# Altium footprint library HVPSlibrary.PcbLib: 149 footprints (part 7 of 11)
Each footprint in its own frame and in the unit in brackets; x right, y up, seen from the top. Pads: shape width x height; smd on the part's side, far side on the other; paste and mask are expansions set on the pad; w line width, h text height; cw(c..) or ccw(c..) is an arc to the next point about the centre after c.
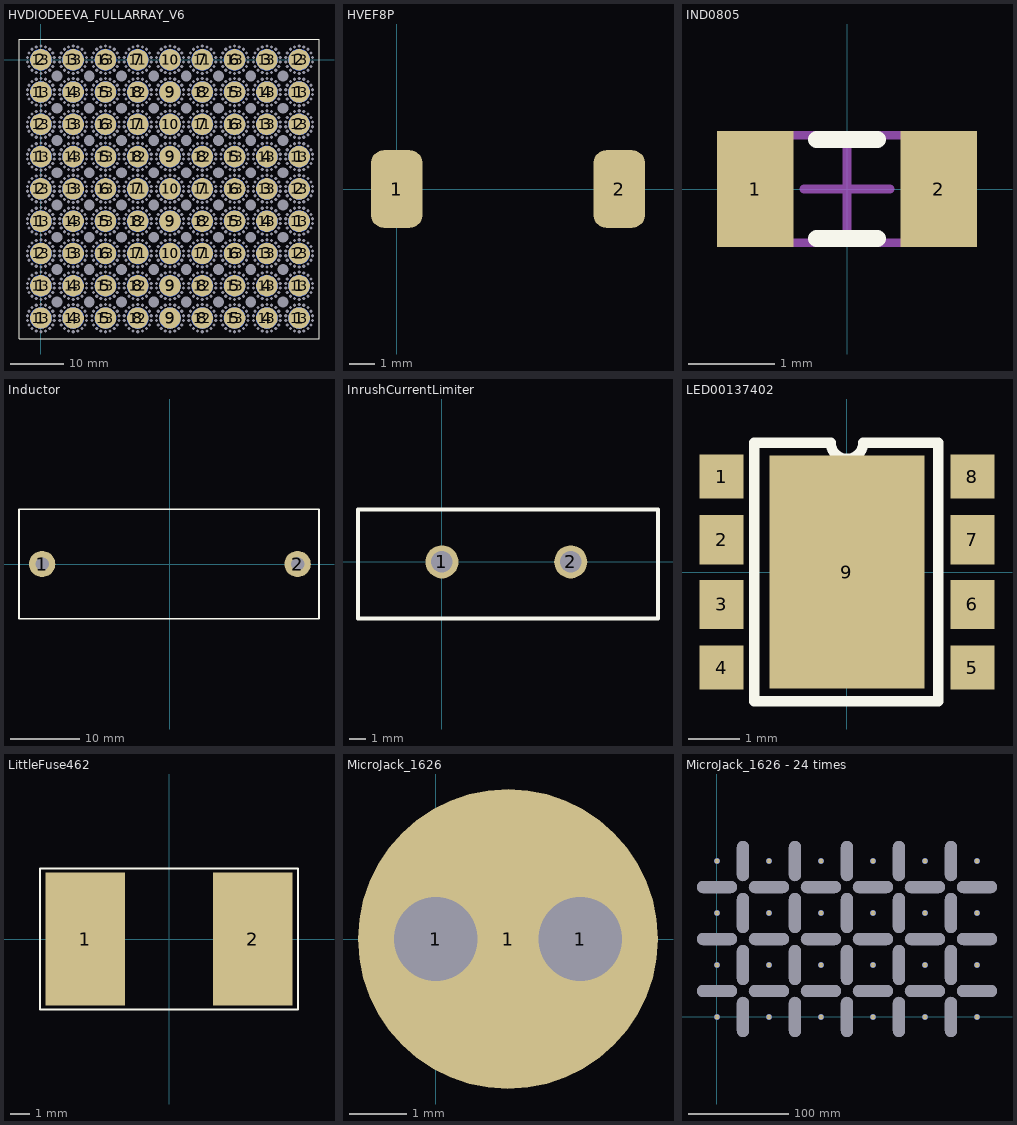
[diagram p6: the footprints below, top view; thin cyan lines are the x and y axes]

## HVDIODEEVA_FULLARRAY_V6 [mm]
pads (1684):
  round 0.3 hole 0.595 unplated: 1(-2.501,-48.441) 1(-2.501,-47.559) 1(-2.501,-42.441) 1(-2.501,-41.559) 1(-2.501,-36.441) 1(-2.501,-35.559) 1(-2.501,-30.441) 1(-2.501,-29.559) 1(-2.501,-24.441) 1(-2.501,-23.559) 1(-2.501,-18.441) 1(-2.501,-17.559) 1(-2.501,-12.441) 1(-2.501,-11.559) 1(-2.501,-6.441) 1(-2.501,-5.559) 1(-2.501,-0.441) 1(-2.501,0.441) 1(-2.2,-46.73) 1(-2.2,-40.73) 1(-2.2,-34.73) 1(-2.2,-28.73) 1(-2.2,-22.73) 1(-2.2,-16.73) 1(-2.2,-10.73) 1(-2.2,-4.73) 1(-2.2,1.27) 1(-2.2,-49.27) 1(-2.2,-43.27) 1(-2.2,-37.27) 1(-2.2,-31.27) 1(-2.2,-25.27) 1(-2.2,-19.27) 1(-2.2,-13.27) 1(-2.2,-7.27) 1(-2.2,-1.27) 1(-1.633,-46.054) 1(-1.633,-40.054) 1(-1.633,-34.054) 1(-1.633,-28.054) 1(-1.633,-22.054) 1(-1.633,-16.054) 1(-1.633,-10.054) 1(-1.633,-4.054) 1(-1.633,1.946) 1(-1.633,-49.946) 1(-1.633,-43.946) 1(-1.633,-37.946) 1(-1.633,-31.946) 1(-1.633,-25.946) 1(-1.633,-19.946) 1(-1.633,-13.946) 1(-1.633,-7.946) 1(-1.633,-1.946) 1(-0.869,-45.613) 1(-0.869,-39.613) 1(-0.869,-33.613) 1(-0.869,-27.613) 1(-0.869,-21.613) 1(-0.869,-15.613) 1(-0.869,-9.613) 1(-0.869,-3.613) 1(-0.869,2.387) 1(-0.869,-50.387) 1(-0.869,-44.387) 1(-0.869,-38.387) 1(-0.869,-32.387) 1(-0.869,-26.387) 1(-0.869,-20.387) 1(-0.869,-14.387) 1(-0.869,-8.387) 1(-0.869,-2.387) 1(0,-45.46) 1(0,-39.46) 1(0,-33.46) 1(0,-27.46) 1(0,-21.46) 1(0,-15.46) 1(0,-9.46) 1(0,-3.46) 1(0,2.54) 1(0,-50.54) 1(0,-44.54) 1(0,-38.54) 1(0,-32.54) 1(0,-26.54) 1(0,-20.54) 1(0,-14.54) 1(0,-8.54) 1(0,-2.54) 1(0.869,-45.613) 1(0.869,-39.613) 1(0.869,-33.613) 1(0.869,-27.613) 1(0.869,-21.613) 1(0.869,-15.613) 1(0.869,-9.613) 1(0.869,-3.613) 1(0.869,2.387) 1(0.869,-50.387) 1(0.869,-44.387) 1(0.869,-38.387) 1(0.869,-32.387) 1(0.869,-26.387) 1(0.869,-20.387) 1(0.869,-14.387) 1(0.869,-8.387) 1(0.869,-2.387) 1(1.633,-46.054) 1(1.633,-40.054) 1(1.633,-34.054) 1(1.633,-28.054) 1(1.633,-22.054) 1(1.633,-16.054) 1(1.633,-10.054) 1(1.633,-4.054) 1(1.633,1.946) 1(1.633,-49.946) 1(1.633,-43.946) 1(1.633,-37.946) 1(1.633,-31.946) 1(1.633,-25.946) 1(1.633,-19.946) 1(1.633,-13.946) 1(1.633,-7.946) 1(1.633,-1.946) 1(2.2,-46.73) 1(2.2,-40.73) 1(2.2,-34.73) 1(2.2,-28.73) 1(2.2,-22.73) 1(2.2,-16.73) 1(2.2,-10.73) 1(2.2,-4.73) 1(2.2,1.27) 1(2.2,-49.27) 1(2.2,-43.27) 1(2.2,-37.27) 1(2.2,-31.27) 1(2.2,-25.27) 1(2.2,-19.27) 1(2.2,-13.27) 1(2.2,-7.27) 1(2.2,-1.27) 1(2.501,-48.441) 1(2.501,-47.559) 1(2.501,-42.441) 1(2.501,-41.559) 1(2.501,-36.441) 1(2.501,-35.559) 1(2.501,-30.441) 1(2.501,-29.559) 1(2.501,-24.441) 1(2.501,-23.559) 1(2.501,-18.441) 1(2.501,-17.559) 1(2.501,-12.441) 1(2.501,-11.559) 1(2.501,-6.441) 1(2.501,-5.559) 1(2.501,-0.441) 1(2.501,0.441) 1(3.499,-48.441) 1(3.499,-47.559) 1(3.499,-42.441) 1(3.499,-41.559) 1(3.499,-36.441) 1(3.499,-35.559) 1(3.499,-30.441) 1(3.499,-29.559) 1(3.499,-24.441) 1(3.499,-23.559) 1(3.499,-18.441) 1(3.499,-17.559) 1(3.499,-12.441) 1(3.499,-11.559) 1(3.499,-6.441) 1(3.499,-5.559) 1(3.499,-0.441) 1(3.499,0.441) 1(3.8,-46.73) 1(3.8,-40.73) 1(3.8,-34.73) 1(3.8,-28.73) 1(3.8,-22.73) 1(3.8,-16.73) 1(3.8,-10.73) 1(3.8,-4.73) 1(3.8,1.27) 1(3.8,-49.27) 1(3.8,-43.27) 1(3.8,-37.27) 1(3.8,-31.27) 1(3.8,-25.27) 1(3.8,-19.27) 1(3.8,-13.27) 1(3.8,-7.27) 1(3.8,-1.27) 1(4.367,-46.054) 1(4.367,-40.054) 1(4.367,-34.054) 1(4.367,-28.054) 1(4.367,-22.054) 1(4.367,-16.054) 1(4.367,-10.054) 1(4.367,-4.054) 1(4.367,1.946) 1(4.367,-49.946) 1(4.367,-43.946) 1(4.367,-37.946) 1(4.367,-31.946) 1(4.367,-25.946) 1(4.367,-19.946) 1(4.367,-13.946) 1(4.367,-7.946) 1(4.367,-1.946) 1(5.131,-45.613) 1(5.131,-39.613) 1(5.131,-33.613) 1(5.131,-27.613) 1(5.131,-21.613) 1(5.131,-15.613) 1(5.131,-9.613) 1(5.131,-3.613) 1(5.131,2.387) 1(5.131,-50.387) 1(5.131,-44.387) 1(5.131,-38.387) 1(5.131,-32.387) 1(5.131,-26.387) 1(5.131,-20.387) 1(5.131,-14.387) 1(5.131,-8.387) 1(5.131,-2.387) 1(6,-45.46) 1(6,-39.46) 1(6,-33.46) 1(6,-27.46) 1(6,-21.46) 1(6,-15.46) 1(6,-9.46) 1(6,-3.46) 1(6,2.54) 1(6,-50.54) 1(6,-44.54) 1(6,-38.54) 1(6,-32.54) 1(6,-26.54) 1(6,-20.54) 1(6,-14.54) 1(6,-8.54) 1(6,-2.54) 1(6.869,-45.613) 1(6.869,-39.613) 1(6.869,-33.613) 1(6.869,-27.613) 1(6.869,-21.613) 1(6.869,-15.613) 1(6.869,-9.613) 1(6.869,-3.613) 1(6.869,2.387) 1(6.869,-50.387) 1(6.869,-44.387) 1(6.869,-38.387) 1(6.869,-32.387) 1(6.869,-26.387) 1(6.869,-20.387) 1(6.869,-14.387) 1(6.869,-8.387) 1(6.869,-2.387) 1(7.633,-46.054) 1(7.633,-40.054) 1(7.633,-34.054) 1(7.633,-28.054) 1(7.633,-22.054) 1(7.633,-16.054) 1(7.633,-10.054) 1(7.633,-4.054) 1(7.633,1.946) 1(7.633,-49.946) 1(7.633,-43.946) 1(7.633,-37.946) 1(7.633,-31.946) 1(7.633,-25.946) 1(7.633,-19.946) 1(7.633,-13.946) 1(7.633,-7.946) 1(7.633,-1.946) 1(8.2,-46.73) 1(8.2,-40.73) 1(8.2,-34.73) 1(8.2,-28.73) 1(8.2,-22.73) 1(8.2,-16.73) 1(8.2,-10.73) 1(8.2,-4.73) 1(8.2,1.27) 1(8.2,-49.27) 1(8.2,-43.27) 1(8.2,-37.27) 1(8.2,-31.27) 1(8.2,-25.27) 1(8.2,-19.27) 1(8.2,-13.27) 1(8.2,-7.27) 1(8.2,-1.27) 1(8.501,-48.441) 1(8.501,-47.559) 1(8.501,-42.441) 1(8.501,-41.559) 1(8.501,-36.441) 1(8.501,-35.559) 1(8.501,-30.441) 1(8.501,-29.559) 1(8.501,-24.441) 1(8.501,-23.559) 1(8.501,-18.441) 1(8.501,-17.559) 1(8.501,-12.441) 1(8.501,-11.559) 1(8.501,-6.441) 1(8.501,-5.559) 1(8.501,-0.441) 1(8.501,0.441) 1(9.499,-48.441) 1(9.499,-47.559) 1(9.499,-42.441) 1(9.499,-41.559) 1(9.499,-36.441) 1(9.499,-35.559) 1(9.499,-30.441) 1(9.499,-29.559) 1(9.499,-24.441) 1(9.499,-23.559) 1(9.499,-18.441) 1(9.499,-17.559) 1(9.499,-12.441) 1(9.499,-11.559) 1(9.499,-6.441) 1(9.499,-5.559) 1(9.499,-0.441) 1(9.499,0.441) 1(9.8,-46.73) 1(9.8,-40.73) 1(9.8,-34.73) 1(9.8,-28.73) 1(9.8,-22.73) 1(9.8,-16.73) 1(9.8,-10.73) 1(9.8,-4.73) 1(9.8,1.27) 1(9.8,-49.27) 1(9.8,-43.27) 1(9.8,-37.27) 1(9.8,-31.27) 1(9.8,-25.27) 1(9.8,-19.27) 1(9.8,-13.27) 1(9.8,-7.27) 1(9.8,-1.27) 1(10.367,-46.054) 1(10.367,-40.054) 1(10.367,-34.054) 1(10.367,-28.054) 1(10.367,-22.054) 1(10.367,-16.054) 1(10.367,-10.054) 1(10.367,-4.054) 1(10.367,1.946) 1(10.367,-49.946) 1(10.367,-43.946) 1(10.367,-37.946) 1(10.367,-31.946) 1(10.367,-25.946) 1(10.367,-19.946) 1(10.367,-13.946) 1(10.367,-7.946) 1(10.367,-1.946) 1(11.131,-45.613) 1(11.131,-39.613) 1(11.131,-33.613) 1(11.131,-27.613) 1(11.131,-21.613) 1(11.131,-15.613) 1(11.131,-9.613) 1(11.131,-3.613) 1(11.131,2.387) 1(11.131,-50.387) 1(11.131,-44.387) 1(11.131,-38.387) 1(11.131,-32.387) 1(11.131,-26.387) 1(11.131,-20.387) 1(11.131,-14.387) 1(11.131,-8.387) 1(11.131,-2.387) 1(12,-45.46) 1(12,-39.46) 1(12,-33.46) 1(12,-27.46) 1(12,-21.46) 1(12,-15.46) 1(12,-9.46) 1(12,-3.46) 1(12,2.54) 1(12,-50.54) 1(12,-44.54) 1(12,-38.54) 1(12,-32.54) 1(12,-26.54) 1(12,-20.54) 1(12,-14.54) 1(12,-8.54) 1(12,-2.54) 1(12.869,-45.613) 1(12.869,-39.613) 1(12.869,-33.613) 1(12.869,-27.613) 1(12.869,-21.613) 1(12.869,-15.613) 1(12.869,-9.613) 1(12.869,-3.613) 1(12.869,2.387) 1(12.869,-50.387) 1(12.869,-44.387) 1(12.869,-38.387) 1(12.869,-32.387) 1(12.869,-26.387) 1(12.869,-20.387) 1(12.869,-14.387) 1(12.869,-8.387) 1(12.869,-2.387) 1(13.633,-46.054) 1(13.633,-40.054) 1(13.633,-34.054) 1(13.633,-28.054) 1(13.633,-22.054) 1(13.633,-16.054) 1(13.633,-10.054) 1(13.633,-4.054) 1(13.633,1.946) 1(13.633,-49.946) 1(13.633,-43.946) 1(13.633,-37.946) 1(13.633,-31.946) 1(13.633,-25.946) 1(13.633,-19.946) 1(13.633,-13.946) 1(13.633,-7.946) 1(13.633,-1.946) 1(14.2,-46.73) 1(14.2,-40.73) 1(14.2,-34.73) 1(14.2,-28.73) 1(14.2,-22.73) 1(14.2,-16.73) 1(14.2,-10.73) 1(14.2,-4.73) 1(14.2,1.27) 1(14.2,-49.27) 1(14.2,-43.27) 1(14.2,-37.27) 1(14.2,-31.27) 1(14.2,-25.27) 1(14.2,-19.27) 1(14.2,-13.27) 1(14.2,-7.27) 1(14.2,-1.27) 1(14.501,-48.441) 1(14.501,-47.559) 1(14.501,-42.441) 1(14.501,-41.559) 1(14.501,-36.441) 1(14.501,-35.559) 1(14.501,-30.441) 1(14.501,-29.559) 1(14.501,-24.441) 1(14.501,-23.559) 1(14.501,-18.441) 1(14.501,-17.559) 1(14.501,-12.441) 1(14.501,-11.559) 1(14.501,-6.441) 1(14.501,-5.559) 1(14.501,-0.441) 1(14.501,0.441) 1(15.499,-48.441) 1(15.499,-47.559) 1(15.499,-42.441) 1(15.499,-41.559) 1(15.499,-36.441) 1(15.499,-35.559) 1(15.499,-30.441) 1(15.499,-29.559) 1(15.499,-24.441) 1(15.499,-23.559) 1(15.499,-18.441) 1(15.499,-17.559) 1(15.499,-12.441) 1(15.499,-11.559) 1(15.499,-6.441) 1(15.499,-5.559) 1(15.499,-0.441) 1(15.499,0.441) 1(15.8,-46.73) 1(15.8,-40.73) 1(15.8,-34.73) 1(15.8,-28.73) 1(15.8,-22.73) 1(15.8,-16.73) 1(15.8,-10.73) 1(15.8,-4.73) 1(15.8,1.27) 1(15.8,-49.27) 1(15.8,-43.27) 1(15.8,-37.27) 1(15.8,-31.27) 1(15.8,-25.27) 1(15.8,-19.27) 1(15.8,-13.27) 1(15.8,-7.27) 1(15.8,-1.27) 1(16.367,-46.054) 1(16.367,-40.054) 1(16.367,-34.054) 1(16.367,-28.054) 1(16.367,-22.054) 1(16.367,-16.054) 1(16.367,-10.054) 1(16.367,-4.054) 1(16.367,1.946) 1(16.367,-49.946) 1(16.367,-43.946) 1(16.367,-37.946) 1(16.367,-31.946) 1(16.367,-25.946) 1(16.367,-19.946) 1(16.367,-13.946) 1(16.367,-7.946) 1(16.367,-1.946) 1(17.131,-45.613) 1(17.131,-39.613) 1(17.131,-33.613) 1(17.131,-27.613) 1(17.131,-21.613) 1(17.131,-15.613) 1(17.131,-9.613) 1(17.131,-3.613) 1(17.131,2.387) 1(17.131,-50.387) 1(17.131,-44.387) 1(17.131,-38.387) 1(17.131,-32.387) 1(17.131,-26.387) 1(17.131,-20.387) 1(17.131,-14.387) 1(17.131,-8.387) 1(17.131,-2.387) 1(18,-45.46) 1(18,-39.46) 1(18,-33.46) 1(18,-27.46) 1(18,-21.46) 1(18,-15.46) 1(18,-9.46) 1(18,-3.46) 1(18,2.54) 1(18,-50.54) 1(18,-44.54) 1(18,-38.54) 1(18,-32.54) 1(18,-26.54) 1(18,-20.54) 1(18,-14.54) 1(18,-8.54) 1(18,-2.54) 1(18.869,-45.613) 1(18.869,-39.613) 1(18.869,-33.613) 1(18.869,-27.613) 1(18.869,-21.613) 1(18.869,-15.613) 1(18.869,-9.613) 1(18.869,-3.613) 1(18.869,2.387) 1(18.869,-50.387) 1(18.869,-44.387) 1(18.869,-38.387) 1(18.869,-32.387) 1(18.869,-26.387) 1(18.869,-20.387) 1(18.869,-14.387) 1(18.869,-8.387) 1(18.869,-2.387) 1(19.633,-46.054) 1(19.633,-40.054) 1(19.633,-34.054) 1(19.633,-28.054) 1(19.633,-22.054) 1(19.633,-16.054) 1(19.633,-10.054) 1(19.633,-4.054) 1(19.633,1.946) 1(19.633,-49.946) 1(19.633,-43.946) 1(19.633,-37.946) 1(19.633,-31.946) 1(19.633,-25.946) 1(19.633,-19.946) 1(19.633,-13.946) 1(19.633,-7.946) 1(19.633,-1.946) 1(20.2,-46.73) 1(20.2,-40.73) 1(20.2,-34.73) 1(20.2,-28.73) 1(20.2,-22.73) 1(20.2,-16.73) 1(20.2,-10.73) 1(20.2,-4.73) 1(20.2,1.27) 1(20.2,-49.27) 1(20.2,-43.27) 1(20.2,-37.27) 1(20.2,-31.27) 1(20.2,-25.27) 1(20.2,-19.27) 1(20.2,-13.27) 1(20.2,-7.27) 1(20.2,-1.27) 1(20.501,-48.441) 1(20.501,-47.559) 1(20.501,-42.441) 1(20.501,-41.559) 1(20.501,-36.441) 1(20.501,-35.559) 1(20.501,-30.441) 1(20.501,-29.559) 1(20.501,-24.441) 1(20.501,-23.559) 1(20.501,-18.441) 1(20.501,-17.559) 1(20.501,-12.441) 1(20.501,-11.559) 1(20.501,-6.441) 1(20.501,-5.559) 1(20.501,-0.441) 1(20.501,0.441) 1(21.499,-48.441) 1(21.499,-47.559) 1(21.499,-42.441) 1(21.499,-41.559) 1(21.499,-36.441) 1(21.499,-35.559) 1(21.499,-30.441) 1(21.499,-29.559) 1(21.499,-24.441) 1(21.499,-23.559) 1(21.499,-18.441) 1(21.499,-17.559) 1(21.499,-12.441) 1(21.499,-11.559) 1(21.499,-6.441) 1(21.499,-5.559) 1(21.499,-0.441) 1(21.499,0.441) 1(21.8,-46.73) 1(21.8,-40.73) 1(21.8,-34.73) 1(21.8,-28.73) 1(21.8,-22.73) 1(21.8,-16.73) 1(21.8,-10.73) 1(21.8,-4.73) 1(21.8,1.27) 1(21.8,-49.27) 1(21.8,-43.27) 1(21.8,-37.27) 1(21.8,-31.27) 1(21.8,-25.27) 1(21.8,-19.27) 1(21.8,-13.27) 1(21.8,-7.27) 1(21.8,-1.27) 1(22.367,-46.054) 1(22.367,-40.054) 1(22.367,-34.054) 1(22.367,-28.054) 1(22.367,-22.054) 1(22.367,-16.054) 1(22.367,-10.054) 1(22.367,-4.054) 1(22.367,1.946) 1(22.367,-49.946) 1(22.367,-43.946) 1(22.367,-37.946) 1(22.367,-31.946) 1(22.367,-25.946) 1(22.367,-19.946) 1(22.367,-13.946) 1(22.367,-7.946) 1(22.367,-1.946) 1(23.131,-45.613) 1(23.131,-39.613) 1(23.131,-33.613) 1(23.131,-27.613) 1(23.131,-21.613) 1(23.131,-15.613) 1(23.131,-9.613) 1(23.131,-3.613) 1(23.131,2.387) 1(23.131,-50.387) 1(23.131,-44.387) 1(23.131,-38.387) 1(23.131,-32.387) 1(23.131,-26.387) 1(23.131,-20.387) 1(23.131,-14.387) 1(23.131,-8.387) 1(23.131,-2.387) 1(24,-45.46) 1(24,-39.46) 1(24,-33.46) 1(24,-27.46) 1(24,-21.46) 1(24,-15.46) 1(24,-9.46) 1(24,-3.46) 1(24,2.54) 1(24,-50.54) 1(24,-44.54) 1(24,-38.54) 1(24,-32.54) 1(24,-26.54) 1(24,-20.54) 1(24,-14.54) 1(24,-8.54) 1(24,-2.54) 1(24.869,-45.613) 1(24.869,-39.613) 1(24.869,-33.613) 1(24.869,-27.613) 1(24.869,-21.613) 1(24.869,-15.613) 1(24.869,-9.613) 1(24.869,-3.613) 1(24.869,2.387) 1(24.869,-50.387) 1(24.869,-44.387) 1(24.869,-38.387) 1(24.869,-32.387) 1(24.869,-26.387) 1(24.869,-20.387) 1(24.869,-14.387) 1(24.869,-8.387) 1(24.869,-2.387) 1(25.633,-46.054) 1(25.633,-40.054) 1(25.633,-34.054) 1(25.633,-28.054) 1(25.633,-22.054) 1(25.633,-16.054) 1(25.633,-10.054) 1(25.633,-4.054) 1(25.633,1.946) 1(25.633,-49.946) 1(25.633,-43.946) 1(25.633,-37.946) 1(25.633,-31.946) 1(25.633,-25.946) 1(25.633,-19.946) 1(25.633,-13.946) 1(25.633,-7.946) 1(25.633,-1.946) 1(26.2,-46.73) 1(26.2,-40.73) 1(26.2,-34.73) 1(26.2,-28.73) 1(26.2,-22.73) 1(26.2,-16.73) 1(26.2,-10.73) 1(26.2,-4.73) 1(26.2,1.27) 1(26.2,-49.27) 1(26.2,-43.27) 1(26.2,-37.27) 1(26.2,-31.27) 1(26.2,-25.27) 1(26.2,-19.27) 1(26.2,-13.27) 1(26.2,-7.27) 1(26.2,-1.27) 1(26.501,-48.441) 1(26.501,-47.559) 1(26.501,-42.441) 1(26.501,-41.559) 1(26.501,-36.441) 1(26.501,-35.559) 1(26.501,-30.441) 1(26.501,-29.559) 1(26.501,-24.441) 1(26.501,-23.559) 1(26.501,-18.441) 1(26.501,-17.559) 1(26.501,-12.441) 1(26.501,-11.559) 1(26.501,-6.441) 1(26.501,-5.559) 1(26.501,-0.441) 1(26.501,0.441) 1(27.499,-48.441) 1(27.499,-47.559) 1(27.499,-42.441) 1(27.499,-41.559) 1(27.499,-36.441) 1(27.499,-35.559) 1(27.499,-30.441) 1(27.499,-29.559) 1(27.499,-24.441) 1(27.499,-23.559) 1(27.499,-18.441) 1(27.499,-17.559) 1(27.499,-12.441) 1(27.499,-11.559) 1(27.499,-6.441) 1(27.499,-5.559) 1(27.499,-0.441) 1(27.499,0.441) 1(27.8,-46.73) 1(27.8,-40.73) 1(27.8,-34.73) 1(27.8,-28.73) 1(27.8,-22.73) 1(27.8,-16.73) 1(27.8,-10.73) 1(27.8,-4.73) 1(27.8,1.27) 1(27.8,-49.27) 1(27.8,-43.27) 1(27.8,-37.27) 1(27.8,-31.27) 1(27.8,-25.27) 1(27.8,-19.27) 1(27.8,-13.27) 1(27.8,-7.27) 1(27.8,-1.27) 1(28.367,-46.054) 1(28.367,-40.054) 1(28.367,-34.054) 1(28.367,-28.054) 1(28.367,-22.054) 1(28.367,-16.054) 1(28.367,-10.054) 1(28.367,-4.054) 1(28.367,1.946) 1(28.367,-49.946) 1(28.367,-43.946) 1(28.367,-37.946) 1(28.367,-31.946) 1(28.367,-25.946) 1(28.367,-19.946) 1(28.367,-13.946) 1(28.367,-7.946) 1(28.367,-1.946) 1(29.131,-45.613) 1(29.131,-39.613) 1(29.131,-33.613) 1(29.131,-27.613) 1(29.131,-21.613) 1(29.131,-15.613) 1(29.131,-9.613) 1(29.131,-3.613) 1(29.131,2.387) 1(29.131,-50.387) 1(29.131,-44.387) 1(29.131,-38.387) 1(29.131,-32.387) 1(29.131,-26.387) 1(29.131,-20.387) 1(29.131,-14.387) 1(29.131,-8.387) 1(29.131,-2.387) 1(30,-45.46) 1(30,-39.46) 1(30,-33.46) 1(30,-27.46) 1(30,-21.46) 1(30,-15.46) 1(30,-9.46) 1(30,-3.46) 1(30,2.54) 1(30,-50.54) 1(30,-44.54) 1(30,-38.54) 1(30,-32.54) 1(30,-26.54) 1(30,-20.54) 1(30,-14.54) 1(30,-8.54) 1(30,-2.54) 1(30.869,-45.613) 1(30.869,-39.613) 1(30.869,-33.613) 1(30.869,-27.613) 1(30.869,-21.613) 1(30.869,-15.613) 1(30.869,-9.613) 1(30.869,-3.613) 1(30.869,2.387) 1(30.869,-50.387) 1(30.869,-44.387) 1(30.869,-38.387) 1(30.869,-32.387) 1(30.869,-26.387) 1(30.869,-20.387) 1(30.869,-14.387) 1(30.869,-8.387) 1(30.869,-2.387) 1(31.633,-46.054) 1(31.633,-40.054) 1(31.633,-34.054) 1(31.633,-28.054) 1(31.633,-22.054) 1(31.633,-16.054) 1(31.633,-10.054) 1(31.633,-4.054) 1(31.633,1.946) 1(31.633,-49.946) 1(31.633,-43.946) 1(31.633,-37.946) 1(31.633,-31.946) 1(31.633,-25.946) 1(31.633,-19.946) 1(31.633,-13.946) 1(31.633,-7.946) 1(31.633,-1.946) 1(32.2,-46.73) 1(32.2,-40.73) 1(32.2,-34.73) 1(32.2,-28.73) 1(32.2,-22.73) 1(32.2,-16.73) 1(32.2,-10.73) 1(32.2,-4.73) 1(32.2,1.27) 1(32.2,-49.27) 1(32.2,-43.27) 1(32.2,-37.27) 1(32.2,-31.27) 1(32.2,-25.27) 1(32.2,-19.27) 1(32.2,-13.27) 1(32.2,-7.27) 1(32.2,-1.27) 1(32.501,-48.441) 1(32.501,-47.559) 1(32.501,-42.441) 1(32.501,-41.559) 1(32.501,-36.441) 1(32.501,-35.559) 1(32.501,-30.441) 1(32.501,-29.559) 1(32.501,-24.441) 1(32.501,-23.559) 1(32.501,-18.441) 1(32.501,-17.559) 1(32.501,-12.441) 1(32.501,-11.559) 1(32.501,-6.441) 1(32.501,-5.559) 1(32.501,-0.441) 1(32.501,0.441) 1(33.499,-48.441) 1(33.499,-47.559) 1(33.499,-42.441) 1(33.499,-41.559) 1(33.499,-36.441) 1(33.499,-35.559) 1(33.499,-30.441) 1(33.499,-29.559) 1(33.499,-24.441) 1(33.499,-23.559) 1(33.499,-18.441) 1(33.499,-17.559) 1(33.499,-12.441) 1(33.499,-11.559) 1(33.499,-6.441) 1(33.499,-5.559) 1(33.499,-0.441) 1(33.499,0.441) 1(33.8,-46.73) 1(33.8,-40.73) 1(33.8,-34.73) 1(33.8,-28.73) 1(33.8,-22.73) 1(33.8,-16.73) 1(33.8,-10.73) 1(33.8,-4.73) 1(33.8,1.27) 1(33.8,-49.27) 1(33.8,-43.27) 1(33.8,-37.27) 1(33.8,-31.27) 1(33.8,-25.27) 1(33.8,-19.27) 1(33.8,-13.27) 1(33.8,-7.27) 1(33.8,-1.27) 1(34.367,-46.054) 1(34.367,-40.054) 1(34.367,-34.054) 1(34.367,-28.054) 1(34.367,-22.054) 1(34.367,-16.054) 1(34.367,-10.054) 1(34.367,-4.054) 1(34.367,1.946) 1(34.367,-49.946) 1(34.367,-43.946) 1(34.367,-37.946) 1(34.367,-31.946) 1(34.367,-25.946) 1(34.367,-19.946) 1(34.367,-13.946) 1(34.367,-7.946) 1(34.367,-1.946) 1(35.131,-45.613) 1(35.131,-39.613) 1(35.131,-33.613) 1(35.131,-27.613) 1(35.131,-21.613) 1(35.131,-15.613) 1(35.131,-9.613) 1(35.131,-3.613) 1(35.131,2.387) 1(35.131,-50.387) 1(35.131,-44.387) 1(35.131,-38.387) 1(35.131,-32.387) 1(35.131,-26.387) 1(35.131,-20.387) 1(35.131,-14.387) 1(35.131,-8.387) 1(35.131,-2.387) 1(36,-45.46) 1(36,-39.46) 1(36,-33.46) 1(36,-27.46) 1(36,-21.46) 1(36,-15.46) 1(36,-9.46) 1(36,-3.46) 1(36,2.54) 1(36,-50.54) 1(36,-44.54) 1(36,-38.54) 1(36,-32.54) 1(36,-26.54) 1(36,-20.54) 1(36,-14.54) 1(36,-8.54) 1(36,-2.54) 1(36.869,-45.613) 1(36.869,-39.613) 1(36.869,-33.613) 1(36.869,-27.613) 1(36.869,-21.613) 1(36.869,-15.613) 1(36.869,-9.613) 1(36.869,-3.613) 1(36.869,2.387) 1(36.869,-50.387) 1(36.869,-44.387) 1(36.869,-38.387) 1(36.869,-32.387) 1(36.869,-26.387) 1(36.869,-20.387) 1(36.869,-14.387) 1(36.869,-8.387) 1(36.869,-2.387) 1(37.633,-46.054) 1(37.633,-40.054) 1(37.633,-34.054) 1(37.633,-28.054) 1(37.633,-22.054) 1(37.633,-16.054) 1(37.633,-10.054) 1(37.633,-4.054) 1(37.633,1.946) 1(37.633,-49.946) 1(37.633,-43.946) 1(37.633,-37.946) 1(37.633,-31.946) 1(37.633,-25.946) 1(37.633,-19.946) 1(37.633,-13.946) 1(37.633,-7.946) 1(37.633,-1.946) 1(38.2,-46.73) 1(38.2,-40.73) 1(38.2,-34.73) 1(38.2,-28.73) 1(38.2,-22.73) 1(38.2,-16.73) 1(38.2,-10.73) 1(38.2,-4.73) 1(38.2,1.27) 1(38.2,-49.27) 1(38.2,-43.27) 1(38.2,-37.27) 1(38.2,-31.27) 1(38.2,-25.27) 1(38.2,-19.27) 1(38.2,-13.27) 1(38.2,-7.27) 1(38.2,-1.27) 1(38.501,-48.441) 1(38.501,-47.559) 1(38.501,-42.441) 1(38.501,-41.559) 1(38.501,-36.441) 1(38.501,-35.559) 1(38.501,-30.441) 1(38.501,-29.559) 1(38.501,-24.441) 1(38.501,-23.559) 1(38.501,-18.441) 1(38.501,-17.559) 1(38.501,-12.441) 1(38.501,-11.559) 1(38.501,-6.441) 1(38.501,-5.559) 1(38.501,-0.441) 1(38.501,0.441) 1(39.499,-48.441) 1(39.499,-47.559) 1(39.499,-42.441) 1(39.499,-41.559) 1(39.499,-36.441) 1(39.499,-35.559) 1(39.499,-30.441) 1(39.499,-29.559) 1(39.499,-24.441) 1(39.499,-23.559) 1(39.499,-18.441) 1(39.499,-17.559) 1(39.499,-12.441) 1(39.499,-11.559) 1(39.499,-6.441) 1(39.499,-5.559) 1(39.499,-0.441) 1(39.499,0.441) 1(39.8,-46.73) 1(39.8,-40.73) 1(39.8,-34.73) 1(39.8,-28.73) 1(39.8,-22.73) 1(39.8,-16.73) 1(39.8,-10.73) 1(39.8,-4.73) 1(39.8,1.27) 1(39.8,-49.27) 1(39.8,-43.27) 1(39.8,-37.27) 1(39.8,-31.27) 1(39.8,-25.27) 1(39.8,-19.27) 1(39.8,-13.27) 1(39.8,-7.27) 1(39.8,-1.27) 1(40.367,-46.054) 1(40.367,-40.054) 1(40.367,-34.054) 1(40.367,-28.054) 1(40.367,-22.054) 1(40.367,-16.054) 1(40.367,-10.054) 1(40.367,-4.054) 1(40.367,1.946) 1(40.367,-49.946) 1(40.367,-43.946) 1(40.367,-37.946) 1(40.367,-31.946) 1(40.367,-25.946) 1(40.367,-19.946) 1(40.367,-13.946) 1(40.367,-7.946) 1(40.367,-1.946) 1(41.131,-45.613) 1(41.131,-39.613) 1(41.131,-33.613) 1(41.131,-27.613) 1(41.131,-21.613) 1(41.131,-15.613) 1(41.131,-9.613) 1(41.131,-3.613) 1(41.131,2.387) 1(41.131,-50.387) 1(41.131,-44.387) 1(41.131,-38.387) 1(41.131,-32.387) 1(41.131,-26.387) 1(41.131,-20.387) 1(41.131,-14.387) 1(41.131,-8.387) 1(41.131,-2.387) 1(42,-45.46) 1(42,-39.46) 1(42,-33.46) 1(42,-27.46) 1(42,-21.46) 1(42,-15.46) 1(42,-9.46) 1(42,-3.46) 1(42,2.54) 1(42,-50.54) 1(42,-44.54) 1(42,-38.54) 1(42,-32.54) 1(42,-26.54) 1(42,-20.54) 1(42,-14.54) 1(42,-8.54) 1(42,-2.54) 1(42.869,-45.613) 1(42.869,-39.613) 1(42.869,-33.613) 1(42.869,-27.613) 1(42.869,-21.613) 1(42.869,-15.613) 1(42.869,-9.613) 1(42.869,-3.613) 1(42.869,2.387) 1(42.869,-50.387) 1(42.869,-44.387) 1(42.869,-38.387) 1(42.869,-32.387) 1(42.869,-26.387) 1(42.869,-20.387) 1(42.869,-14.387) 1(42.869,-8.387) 1(42.869,-2.387) 1(43.633,-46.054) 1(43.633,-40.054) 1(43.633,-34.054) 1(43.633,-28.054) 1(43.633,-22.054) 1(43.633,-16.054) 1(43.633,-10.054) 1(43.633,-4.054) 1(43.633,1.946) 1(43.633,-49.946) 1(43.633,-43.946) 1(43.633,-37.946) 1(43.633,-31.946) 1(43.633,-25.946) 1(43.633,-19.946) 1(43.633,-13.946) 1(43.633,-7.946) 1(43.633,-1.946) 1(44.2,-46.73) 1(44.2,-40.73) 1(44.2,-34.73) 1(44.2,-28.73) 1(44.2,-22.73) 1(44.2,-16.73) 1(44.2,-10.73) 1(44.2,-4.73) 1(44.2,1.27) 1(44.2,-49.27) 1(44.2,-43.27) 1(44.2,-37.27) 1(44.2,-31.27) 1(44.2,-25.27) 1(44.2,-19.27) 1(44.2,-13.27) 1(44.2,-7.27) 1(44.2,-1.27) 1(44.501,-48.441) 1(44.501,-47.559) 1(44.501,-42.441) 1(44.501,-41.559) 1(44.501,-36.441) 1(44.501,-35.559) 1(44.501,-30.441) 1(44.501,-29.559) 1(44.501,-24.441) 1(44.501,-23.559) 1(44.501,-18.441) 1(44.501,-17.559) 1(44.501,-12.441) 1(44.501,-11.559) 1(44.501,-6.441) 1(44.501,-5.559) 1(44.501,-0.441) 1(44.501,0.441) 1(45.499,-48.441) 1(45.499,-47.559) 1(45.499,-42.441) 1(45.499,-41.559) 1(45.499,-36.441) 1(45.499,-35.559) 1(45.499,-30.441) 1(45.499,-29.559) 1(45.499,-24.441) 1(45.499,-23.559) 1(45.499,-18.441) 1(45.499,-17.559) 1(45.499,-12.441) 1(45.499,-11.559) 1(45.499,-6.441) 1(45.499,-5.559) 1(45.499,-0.441) 1(45.499,0.441) 1(45.8,-46.73) 1(45.8,-40.73) 1(45.8,-34.73) 1(45.8,-28.73) 1(45.8,-22.73) 1(45.8,-16.73) 1(45.8,-10.73) 1(45.8,-4.73) 1(45.8,1.27) 1(45.8,-49.27) 1(45.8,-43.27) 1(45.8,-37.27) 1(45.8,-31.27) 1(45.8,-25.27) 1(45.8,-19.27) 1(45.8,-13.27) 1(45.8,-7.27) 1(45.8,-1.27) 1(46.367,-46.054) 1(46.367,-40.054) 1(46.367,-34.054) 1(46.367,-28.054) 1(46.367,-22.054) 1(46.367,-16.054) 1(46.367,-10.054) 1(46.367,-4.054) 1(46.367,1.946) 1(46.367,-49.946) 1(46.367,-43.946) 1(46.367,-37.946) 1(46.367,-31.946) 1(46.367,-25.946) 1(46.367,-19.946) 1(46.367,-13.946) 1(46.367,-7.946) 1(46.367,-1.946) 1(47.131,-45.613) 1(47.131,-39.613) 1(47.131,-33.613) 1(47.131,-27.613) 1(47.131,-21.613) 1(47.131,-15.613) 1(47.131,-9.613) 1(47.131,-3.613) 1(47.131,2.387) 1(47.131,-50.387) 1(47.131,-44.387) 1(47.131,-38.387) 1(47.131,-32.387) 1(47.131,-26.387) 1(47.131,-20.387) 1(47.131,-14.387) 1(47.131,-8.387) 1(47.131,-2.387) 1(48,-45.46) 1(48,-39.46) 1(48,-33.46) 1(48,-27.46) 1(48,-21.46) 1(48,-15.46) 1(48,-9.46) 1(48,-3.46) 1(48,2.54) 1(48,-50.54) 1(48,-44.54) 1(48,-38.54) 1(48,-32.54) 1(48,-26.54) 1(48,-20.54) 1(48,-14.54) 1(48,-8.54) 1(48,-2.54) 1(48.869,-45.613) 1(48.869,-39.613) 1(48.869,-33.613) 1(48.869,-27.613) 1(48.869,-21.613) 1(48.869,-15.613) 1(48.869,-9.613) 1(48.869,-3.613) 1(48.869,2.387) 1(48.869,-50.387) 1(48.869,-44.387) 1(48.869,-38.387) 1(48.869,-32.387) 1(48.869,-26.387) 1(48.869,-20.387) 1(48.869,-14.387) 1(48.869,-8.387) 1(48.869,-2.387) 1(49.633,-46.054) 1(49.633,-40.054) 1(49.633,-34.054) 1(49.633,-28.054) 1(49.633,-22.054) 1(49.633,-16.054) 1(49.633,-10.054) 1(49.633,-4.054) 1(49.633,1.946) 1(49.633,-49.946) 1(49.633,-43.946) 1(49.633,-37.946) 1(49.633,-31.946) 1(49.633,-25.946) 1(49.633,-19.946) 1(49.633,-13.946) 1(49.633,-7.946) 1(49.633,-1.946) 1(50.2,-46.73) 1(50.2,-40.73) 1(50.2,-34.73) 1(50.2,-28.73) 1(50.2,-22.73) 1(50.2,-16.73) 1(50.2,-10.73) 1(50.2,-4.73) 1(50.2,1.27) 1(50.2,-49.27) 1(50.2,-43.27) 1(50.2,-37.27) 1(50.2,-31.27) 1(50.2,-25.27) 1(50.2,-19.27) 1(50.2,-13.27) 1(50.2,-7.27) 1(50.2,-1.27) 1(50.501,-48.441) 1(50.501,-47.559) 1(50.501,-42.441) 1(50.501,-41.559) 1(50.501,-36.441) 1(50.501,-35.559) 1(50.501,-30.441) 1(50.501,-29.559) 1(50.501,-24.441) 1(50.501,-23.559) 1(50.501,-18.441) 1(50.501,-17.559) 1(50.501,-12.441) 1(50.501,-11.559) 1(50.501,-6.441) 1(50.501,-5.559) 1(50.501,-0.441) 1(50.501,0.441)
  round 4 smd: 1(0,-48) 1(0,-42) 1(0,-30) 1(0,-18) 1(0,-6) 2(0,-36) 2(0,-24) 2(0,-12) 2(0,0) 3(6,-36) 3(6,-24) 3(6,-12) 3(6,0) 4(6,-48) 4(6,-42) 4(6,-30) 4(6,-18) 4(6,-6) 5(12,-48) 5(12,-42) 5(12,-30) 5(12,-18) 5(12,-6) 6(12,-36) 6(12,-24) 6(12,-12) 6(12,0) 7(18,-36) 7(18,-24) 7(18,-12) 7(18,0) 8(18,-48) 8(18,-42) 8(18,-30) 8(18,-18) 8(18,-6) 9(24,-48) 9(24,-42) 9(24,-30) 9(24,-18) 9(24,-6) 10(24,-36) 10(24,-24) 10(24,-12) 10(24,0) 11(30,-36) 11(30,-24) 11(30,-12) 11(30,0) 12(30,-48) 12(30,-42) 12(30,-30) 12(30,-18) 12(30,-6) 13(36,-48) 13(36,-42) 13(36,-30) 13(36,-36) 13(36,-24) 13(36,-18) 13(36,-12) 13(36,-6) 13(36,0) 13(42,-48) 13(42,-42) 13(42,-36) 13(42,-30) 13(42,-24) 13(42,-18) 13(42,-12) 13(42,-6) 13(42,0) 13(48,-48) 13(48,-42) 13(48,-36) 13(48,-30) 13(48,-24) 13(48,-18) 13(48,-12) 13(48,-6) 13(48,0)
  round 0.4 hole 2 unplated: 1(3,-45) 1(3,-39) 1(3,-33) 1(3,-27) 1(3,-21) 1(3,-15) 1(3,-9) 1(3,-3) 1(9,-45) 1(9,-39) 1(9,-33) 1(9,-27) 1(9,-21) 1(9,-15) 1(9,-9) 1(9,-3) 1(15,-45) 1(15,-39) 1(15,-33) 1(15,-27) 1(15,-21) 1(15,-15) 1(15,-9) 1(15,-3) 1(21,-45) 1(21,-39) 1(21,-33) 1(21,-27) 1(21,-21) 1(21,-15) 1(21,-9) 1(21,-3) 1(27,-45) 1(27,-39) 1(27,-33) 1(27,-27) 1(27,-21) 1(27,-15) 1(27,-9) 1(27,-3) 1(33,-45) 1(33,-39) 1(33,-33) 1(33,-27) 1(33,-21) 1(33,-15) 1(33,-9) 1(33,-3) 1(39,-45) 1(39,-39) 1(39,-33) 1(39,-27) 1(39,-21) 1(39,-15) 1(39,-9) 1(39,-3) 1(45,-45) 1(45,-39) 1(45,-33) 1(45,-27) 1(45,-21) 1(45,-15) 1(45,-9) 1(45,-3)
  round 4 smd far side: 1(48,-48) 1(48,-42) 1(48,-30) 1(48,-18) 1(48,-6) 2(48,-36) 2(48,-24) 2(48,-12) 2(48,0) 3(42,-36) 3(42,-24) 3(42,-12) 3(42,0) 4(42,-48) 4(42,-42) 4(42,-30) 4(42,-18) 4(42,-6) 5(36,-48) 5(36,-42) 5(36,-30) 5(36,-18) 5(36,-6) 6(36,-36) 6(36,-24) 6(36,-12) 6(36,0) 7(30,0) 7(30,-12) 7(30,-36) 7(30,-24) 8(30,-18) 8(30,-6) 8(30,-48) 8(30,-42) 8(30,-30) 9(24,-18) 9(24,-6) 9(24,-48) 9(24,-42) 9(24,-30) 10(24,0) 10(24,-12) 10(24,-36) 10(24,-24) 11(18,0) 11(18,-12) 11(18,-36) 11(18,-24) 12(18,-18) 12(18,-6) 12(18,-48) 12(18,-42) 12(18,-30) 13(0,0) 13(0,-48) 13(0,-42) 13(0,-36) 13(0,-30) 13(0,-24) 13(0,-18) 13(0,-12) 13(0,-6) 13(6,0) 13(6,-48) 13(6,-42) 13(6,-36) 13(6,-30) 13(6,-24) 13(6,-18) 13(6,-12) 13(6,-6) 13(12,0) 13(12,-36) 13(12,-24) 13(12,-18) 13(12,-12) 13(12,-6) 13(12,-48) 13(12,-42) 13(12,-30)
Top Overlay:
  lines w0.2: -4.064,-51.816 51.689,-51.816 51.689,3.779 -4.064,3.779 -4.064,-51.816
Bottom Overlay:
  lines w0.2: -4.064,-51.816 51.689,-51.816 51.689,3.779 -4.064,3.779 -4.064,-51.816
3D body "Diode SMA.stp": height 2.41, standoff 0, extent 18.272,-5.889 24.07,-0.091
3D body "DO-215AD.stp": height 1.35, standoff 0, extent 11.215,-16.942 12.915,-13.092
3D body "DO-215AD.stp": height 1.35, standoff 0, extent 5.119,-16.942 6.819,-13.092
3D body "DO-215AD.stp": height 1.35, standoff 0, extent -0.85,-17.069 0.85,-13.219
3D body "DO-215AD.stp": height 1.35, standoff 0, extent 6.965,-18.788 10.815,-17.088
3D body "ROHM_TUMD2SM.STEP": height 0.8, standoff 0, extent 11.315,-4.379 12.815,-1.779
3D body "ROHM_TUMD2SM.STEP": height 0.8, standoff 0, extent 7.717,-6.75 10.317,-5.25
3D body "ROHM_TUMD2SM.STEP": height 0.8, standoff 0, extent 5.346,-4.379 6.846,-1.779
3D body "ROHM_TUMD2SM.STEP": height 0.8, standoff 0, extent -0.75,-4.252 0.75,-1.652
3D body "X150FF3_Diode.STEP": height 2.16, standoff -2.16, extent 0.008,-31.394 12.021,-22.728
3D body "X150FF3_Diode.STEP": height 2.16, standoff -2.16, extent 11.975,-31.905 23.927,-22.814
3D body "DeanTech_UX_F2CL15.STEP": height 2.15, standoff -2.15, extent -0.128,-43.738 17.654,-34.302
3D body "ROHM_TUMD2SM.STEP": height 0.8, standoff 0, extent 1.748,-0.781 4.348,0.719
3D body "DO-215AD.stp": height 1.35, standoff 0, extent 1.123,-12.692 4.973,-10.992

## HVEF8P [mm]
pads (2):
  rrect50% 2x3 all layers, no hole: 1(0,0) 2(8.6,0)

## IND0805 [mil] "Chip Inductor 2-Leads, Body 2.0x1.2mm, IPC Medium Density"
height 49.21
pads (2):
  rect 35x53.15 smd: 1(-42,0) 2(42,0)
Top Overlay:
  lines w7.87: -13.78,-22.64 13.78,-22.64 ; -13.78,22.64 13.78,22.64
Mechanical 13:
  lines w3.94: -40.35,-24.61 40.35,-24.61 40.35,24.61 -40.35,24.61 -40.35,-24.61
Mechanical 15:
  lines w3.94: -19.68,0 19.69,0 ; 0,-19.68 0,19.68
3D body: height 49.21, standoff 0, extent -40.35,-24.61 40.35,24.61

## Inductor [mil]
height 650
pads (2):
  round 150 hole 76: 1(-728,0) 2(728,0)
Top Overlay:
  lines w10: -860,-312.5 850,-312.5 850,312.5 -860,312.5 -860,-312.5

## InrushCurrentLimiter [mm]
pads (2):
  round 2 hole 1.3: 1(0,0) 2(7.8,0)
Top Overlay:
  lines w0.254: -5.08,-3.429 13.081,-3.429 13.081,3.175 -5.08,3.175 -5.08,-3.429
3D body: height 18, standoff 0, extent -4.953,-3.302 13.081,3.048

## LED00137402 [mm]
pads (9):
  rect 0.85x0.85 smd: 1(-2.425,1.845) 4(-2.425,-1.845) 5(2.425,-1.845) 8(2.425,1.845)
  rect 0.85x0.95 smd: 2(-2.425,0.625) 3(-2.425,-0.625) 6(2.425,-0.625) 7(2.425,0.625)
  rect 3x4.5 smd: 9(0,0)
Top Overlay:
  lines w0.2: -1.79,-2.5 1.766,-2.5 1.766,2.5 0.312,2.5 cw(c0,2.5) -0.312,2.5 -1.79,2.5 -1.79,-2.5

## LittleFuse462 [mm]
pads (2):
  rect 4x6.68 smd: 1(-4.2,0) 2(4.2,0)
Top Overlay:
  lines w0.1: -6.477,-3.556 -6.477,-0.867 -6.477,3.556 6.477,3.556 6.477,-3.556 -6.477,-3.556
3D body: height 4.5, standoff 0, extent -6.35,-3.556 6.477,3.556

## MicroJack_1626 [mm]
pads (3):
  round 2.5 hole 1.45 paste+0 mask+0: 1(0,0) 1(2.5,0)
  round 5.2 smd: 1(1.25,0)

## MicroJack_1626 - 24 times [mm]
pads (134):
  round 2.5 hole 1.48 paste+0 mask+0: 1(-1.25,0) 1(-1.25,52) 1(-1.25,104) 1(-1.25,156) 1(1.25,0) 1(1.25,52) 1(1.25,104) 1(1.25,156) 1(50.75,0) 1(50.75,52) 1(50.75,104) 1(50.75,156) 1(53.25,0) 1(53.25,52) 1(53.25,104) 1(53.25,156) 1(102.75,0) 1(102.75,52) 1(102.75,104) 1(102.75,156) 1(105.25,0) 1(105.25,52) 1(105.25,104) 1(105.25,156) 1(154.75,0) 1(154.75,52) 1(154.75,104) 1(154.75,156) 1(157.25,0) 1(157.25,52) 1(157.25,104) 1(157.25,156) 1(206.75,0) 1(206.75,52) 1(206.75,104) 1(206.75,156) 1(209.25,0) 1(209.25,52) 1(209.25,104) 1(209.25,156) 1(258.75,0) 1(258.75,52) 1(258.75,104) 1(258.75,156) 1(261.25,0) 1(261.25,52) 1(261.25,104) 1(261.25,156)
  round 5.2 smd: 1(0,0) 1(0,52) 1(0,104) 1(0,156) 1(52,0) 1(52,52) 1(52,104) 1(52,156) 1(104,0) 1(104,52) 1(104,104) 1(104,156) 1(156,0) 1(156,52) 1(156,104) 1(156,156) 1(208,0) 1(208,52) 1(208,104) 1(208,156) 1(260,0) 1(260,52) 1(260,104) 1(260,156)
  round 5.2 smd far side: 1(0,0) 1(0,52) 1(0,104) 1(0,156) 1(52,0) 1(52,52) 1(52,104) 1(52,156) 1(104,0) 1(104,52) 1(104,104) 1(104,156) 1(156,0) 1(156,52) 1(156,104) 1(156,156) 1(208,0) 1(208,52) 1(208,104) 1(208,156) 1(260,0) 1(260,52) 1(260,104) 1(260,156)
  round 0 hole 12 slot 40 at 0 deg unplated: 1(0,26) 1(0,78) 1(0,130) 1(52,26) 1(52,78) 1(52,130) 1(104,26) 1(104,78) 1(104,130) 1(156,26) 1(156,78) 1(156,130) 1(208,26) 1(208,78) 1(208,130) 1(260,26) 1(260,78) 1(260,130)
  round 0 hole 12 slot 40 at 90 deg unplated: 1(26,0) 1(26,52) 1(26,104) 1(26,156) 1(78,0) 1(78,52) 1(78,104) 1(78,156) 1(130,0) 1(130,52) 1(130,104) 1(130,156) 1(182,0) 1(182,52) 1(182,104) 1(182,156) 1(234,0) 1(234,52) 1(234,104) 1(234,156)
3D body "92409A305_BRASS SHIM FOR BEARINGS.STEP": height 0.01, standoff -0.5, extent 256.812,-3.137 263.112,3.162
3D body "92409A305_BRASS SHIM FOR BEARINGS.STEP": height 0.01, standoff -0.5, extent 204.812,-3.137 211.111,3.162
3D body "92409A305_BRASS SHIM FOR BEARINGS.STEP": height 0.01, standoff -0.5, extent 152.812,-3.137 159.112,3.162
3D body "92409A305_BRASS SHIM FOR BEARINGS.STEP": height 0.01, standoff -0.5, extent 100.812,-3.137 107.111,3.162
3D body "92409A305_BRASS SHIM FOR BEARINGS.STEP": height 0.01, standoff -0.5, extent 48.812,-3.137 55.111,3.162
3D body "92409A305_BRASS SHIM FOR BEARINGS.STEP": height 0.01, standoff -0.5, extent 256.812,48.87 263.112,55.169
3D body "92409A305_BRASS SHIM FOR BEARINGS.STEP": height 0.01, standoff -0.5, extent 204.812,48.87 211.111,55.169
3D body "92409A305_BRASS SHIM FOR BEARINGS.STEP": height 0.01, standoff -0.5, extent 152.812,48.87 159.112,55.169
3D body "92409A305_BRASS SHIM FOR BEARINGS.STEP": height 0.01, standoff -0.5, extent 100.812,48.87 107.111,55.169
3D body "92409A305_BRASS SHIM FOR BEARINGS.STEP": height 0.01, standoff -0.5, extent 48.812,48.87 55.111,55.169
3D body "92409A305_BRASS SHIM FOR BEARINGS.STEP": height 0.01, standoff -0.5, extent 256.812,100.876 263.112,107.175
3D body "92409A305_BRASS SHIM FOR BEARINGS.STEP": height 0.01, standoff -0.5, extent 204.812,100.876 211.111,107.175
3D body "92409A305_BRASS SHIM FOR BEARINGS.STEP": height 0.01, standoff -0.5, extent 152.812,100.876 159.112,107.175
3D body "92409A305_BRASS SHIM FOR BEARINGS.STEP": height 0.01, standoff -0.5, extent 100.812,100.876 107.111,107.175
3D body "92409A305_BRASS SHIM FOR BEARINGS.STEP": height 0.01, standoff -0.5, extent 48.812,100.876 55.111,107.175
3D body "92409A305_BRASS SHIM FOR BEARINGS.STEP": height 0.01, standoff -0.5, extent -3.188,-3.137 3.111,3.162
3D body "92409A305_BRASS SHIM FOR BEARINGS.STEP": height 0.01, standoff -0.5, extent -3.188,48.87 3.111,55.169
3D body "92409A305_BRASS SHIM FOR BEARINGS.STEP": height 0.01, standoff -0.5, extent -3.188,100.876 3.111,107.175
3D body "92409A305_BRASS SHIM FOR BEARINGS.STEP": height 0.01, standoff -0.5, extent 256.889,152.895 263.188,159.195
3D body "92409A305_BRASS SHIM FOR BEARINGS.STEP": height 0.01, standoff -0.5, extent 204.888,152.895 211.188,159.195
3D body "92409A305_BRASS SHIM FOR BEARINGS.STEP": height 0.01, standoff -0.5, extent 152.889,152.895 159.188,159.195
3D body "92409A305_BRASS SHIM FOR BEARINGS.STEP": height 0.01, standoff -0.5, extent 100.888,152.895 107.188,159.195
3D body "92409A305_BRASS SHIM FOR BEARINGS.STEP": height 0.01, standoff -0.5, extent 48.888,152.895 55.188,159.195
3D body "92409A305_BRASS SHIM FOR BEARINGS.STEP": height 0.01, standoff -0.5, extent -3.111,152.895 3.188,159.195
3D body "keystone-PN1380-1.STEP": height 3, standoff -1.88, extent 260.107,154.857 262.393,157.143
3D body "keystone-PN1380-1.STEP": height 3, standoff -1.88, extent 257.607,154.857 259.893,157.143
3D body "keystone-PN1626-2.STEP": height 0.72, standoff -1.95, extent 260.264,154.937 262.219,156.893
3D body "keystone-PN1626-2.STEP": height 0.72, standoff -1.95, extent 257.764,154.937 259.719,156.893
3D body "keystone-PN1380-1.STEP": height 3, standoff -1.88, extent 260.107,102.857 262.393,105.143
3D body "keystone-PN1380-1.STEP": height 3, standoff -1.88, extent 257.607,102.857 259.893,105.143
3D body "keystone-PN1626-2.STEP": height 0.72, standoff -1.95, extent 260.264,102.937 262.219,104.893
3D body "keystone-PN1626-2.STEP": height 0.72, standoff -1.95, extent 257.764,102.937 259.719,104.893
3D body "keystone-PN1380-1.STEP": height 3, standoff -1.88, extent 260.107,50.857 262.393,53.143
3D body "keystone-PN1380-1.STEP": height 3, standoff -1.88, extent 257.607,50.857 259.893,53.143
3D body "keystone-PN1626-2.STEP": height 0.72, standoff -1.95, extent 260.264,50.937 262.219,52.893
3D body "keystone-PN1626-2.STEP": height 0.72, standoff -1.95, extent 257.764,50.937 259.719,52.893
3D body "keystone-PN1380-1.STEP": height 3, standoff -1.88, extent 260.107,-1.143 262.393,1.143
3D body "keystone-PN1380-1.STEP": height 3, standoff -1.88, extent 257.607,-1.143 259.893,1.143
3D body "keystone-PN1626-2.STEP": height 0.72, standoff -1.95, extent 260.264,-1.063 262.219,0.893
3D body "keystone-PN1626-2.STEP": height 0.72, standoff -1.95, extent 257.764,-1.063 259.719,0.893
3D body "keystone-PN1380-1.STEP": height 3, standoff -1.88, extent 208.107,154.857 210.393,157.143
3D body "keystone-PN1380-1.STEP": height 3, standoff -1.88, extent 205.607,154.857 207.893,157.143
3D body "keystone-PN1626-2.STEP": height 0.72, standoff -1.95, extent 208.264,154.937 210.219,156.893
3D body "keystone-PN1626-2.STEP": height 0.72, standoff -1.95, extent 205.763,154.937 207.719,156.893
3D body "keystone-PN1380-1.STEP": height 3, standoff -1.88, extent 208.107,102.857 210.393,105.143
3D body "keystone-PN1380-1.STEP": height 3, standoff -1.88, extent 205.607,102.857 207.893,105.143
3D body "keystone-PN1626-2.STEP": height 0.72, standoff -1.95, extent 208.264,102.937 210.219,104.893
3D body "keystone-PN1626-2.STEP": height 0.72, standoff -1.95, extent 205.763,102.937 207.719,104.893
3D body "keystone-PN1380-1.STEP": height 3, standoff -1.88, extent 208.107,50.857 210.393,53.143
3D body "keystone-PN1380-1.STEP": height 3, standoff -1.88, extent 205.607,50.857 207.893,53.143
3D body "keystone-PN1626-2.STEP": height 0.72, standoff -1.95, extent 208.264,50.937 210.219,52.893
3D body "keystone-PN1626-2.STEP": height 0.72, standoff -1.95, extent 205.763,50.937 207.719,52.893
3D body "keystone-PN1380-1.STEP": height 3, standoff -1.88, extent 208.107,-1.143 210.393,1.143
3D body "keystone-PN1380-1.STEP": height 3, standoff -1.88, extent 205.607,-1.143 207.893,1.143
3D body "keystone-PN1626-2.STEP": height 0.72, standoff -1.95, extent 208.264,-1.063 210.219,0.893
3D body "keystone-PN1626-2.STEP": height 0.72, standoff -1.95, extent 205.763,-1.063 207.719,0.893
3D body "keystone-PN1380-1.STEP": height 3, standoff -1.88, extent 156.107,154.857 158.393,157.143
3D body "keystone-PN1380-1.STEP": height 3, standoff -1.88, extent 153.607,154.857 155.893,157.143
3D body "keystone-PN1626-2.STEP": height 0.72, standoff -1.95, extent 156.264,154.937 158.219,156.893
3D body "keystone-PN1626-2.STEP": height 0.72, standoff -1.95, extent 153.764,154.937 155.719,156.893
3D body "keystone-PN1380-1.STEP": height 3, standoff -1.88, extent 156.107,102.857 158.393,105.143
3D body "keystone-PN1380-1.STEP": height 3, standoff -1.88, extent 153.607,102.857 155.893,105.143
3D body "keystone-PN1626-2.STEP": height 0.72, standoff -1.95, extent 156.264,102.937 158.219,104.893
3D body "keystone-PN1626-2.STEP": height 0.72, standoff -1.95, extent 153.764,102.937 155.719,104.893
3D body "keystone-PN1380-1.STEP": height 3, standoff -1.88, extent 156.107,50.857 158.393,53.143
3D body "keystone-PN1380-1.STEP": height 3, standoff -1.88, extent 153.607,50.857 155.893,53.143
3D body "keystone-PN1626-2.STEP": height 0.72, standoff -1.95, extent 156.264,50.937 158.219,52.893
3D body "keystone-PN1626-2.STEP": height 0.72, standoff -1.95, extent 153.764,50.937 155.719,52.893
3D body "keystone-PN1380-1.STEP": height 3, standoff -1.88, extent 156.107,-1.143 158.393,1.143
3D body "keystone-PN1380-1.STEP": height 3, standoff -1.88, extent 153.607,-1.143 155.893,1.143
3D body "keystone-PN1626-2.STEP": height 0.72, standoff -1.95, extent 156.264,-1.063 158.219,0.893
3D body "keystone-PN1626-2.STEP": height 0.72, standoff -1.95, extent 153.764,-1.063 155.719,0.893
3D body "keystone-PN1380-1.STEP": height 3, standoff -1.88, extent 104.107,154.857 106.393,157.143
3D body "keystone-PN1380-1.STEP": height 3, standoff -1.88, extent 101.607,154.857 103.893,157.143
3D body "keystone-PN1626-2.STEP": height 0.72, standoff -1.95, extent 104.264,154.937 106.219,156.893
3D body "keystone-PN1626-2.STEP": height 0.72, standoff -1.95, extent 101.763,154.937 103.719,156.893
3D body "keystone-PN1380-1.STEP": height 3, standoff -1.88, extent 104.107,102.857 106.393,105.143
3D body "keystone-PN1380-1.STEP": height 3, standoff -1.88, extent 101.607,102.857 103.893,105.143
3D body "keystone-PN1626-2.STEP": height 0.72, standoff -1.95, extent 104.264,102.937 106.219,104.893
3D body "keystone-PN1626-2.STEP": height 0.72, standoff -1.95, extent 101.763,102.937 103.719,104.893
3D body "keystone-PN1380-1.STEP": height 3, standoff -1.88, extent 104.107,50.857 106.393,53.143
3D body "keystone-PN1380-1.STEP": height 3, standoff -1.88, extent 101.607,50.857 103.893,53.143
3D body "keystone-PN1626-2.STEP": height 0.72, standoff -1.95, extent 104.264,50.937 106.219,52.893
3D body "keystone-PN1626-2.STEP": height 0.72, standoff -1.95, extent 101.763,50.937 103.719,52.893
3D body "keystone-PN1380-1.STEP": height 3, standoff -1.88, extent 104.107,-1.143 106.393,1.143
3D body "keystone-PN1380-1.STEP": height 3, standoff -1.88, extent 101.607,-1.143 103.893,1.143
3D body "keystone-PN1626-2.STEP": height 0.72, standoff -1.95, extent 104.264,-1.063 106.219,0.893
3D body "keystone-PN1626-2.STEP": height 0.72, standoff -1.95, extent 101.763,-1.063 103.719,0.893
3D body "keystone-PN1380-1.STEP": height 3, standoff -1.88, extent 52.107,154.857 54.393,157.143
3D body "keystone-PN1380-1.STEP": height 3, standoff -1.88, extent 49.607,154.857 51.893,157.143
3D body "keystone-PN1626-2.STEP": height 0.72, standoff -1.95, extent 52.264,154.937 54.219,156.893
3D body "keystone-PN1626-2.STEP": height 0.72, standoff -1.95, extent 49.763,154.937 51.719,156.893
3D body "keystone-PN1380-1.STEP": height 3, standoff -1.88, extent 52.107,102.857 54.393,105.143
3D body "keystone-PN1380-1.STEP": height 3, standoff -1.88, extent 49.607,102.857 51.893,105.143
3D body "keystone-PN1626-2.STEP": height 0.72, standoff -1.95, extent 52.264,102.937 54.219,104.893
3D body "keystone-PN1626-2.STEP": height 0.72, standoff -1.95, extent 49.763,102.937 51.719,104.893
3D body "keystone-PN1380-1.STEP": height 3, standoff -1.88, extent 52.107,50.857 54.393,53.143
3D body "keystone-PN1380-1.STEP": height 3, standoff -1.88, extent 49.607,50.857 51.893,53.143
3D body "keystone-PN1626-2.STEP": height 0.72, standoff -1.95, extent 52.264,50.937 54.219,52.893
3D body "keystone-PN1626-2.STEP": height 0.72, standoff -1.95, extent 49.763,50.937 51.719,52.893
3D body "keystone-PN1380-1.STEP": height 3, standoff -1.88, extent 52.107,-1.143 54.393,1.143
3D body "keystone-PN1380-1.STEP": height 3, standoff -1.88, extent 49.607,-1.143 51.893,1.143
3D body "keystone-PN1626-2.STEP": height 0.72, standoff -1.95, extent 52.264,-1.063 54.219,0.893
3D body "keystone-PN1626-2.STEP": height 0.72, standoff -1.95, extent 49.763,-1.063 51.719,0.893
3D body "keystone-PN1380-1.STEP": height 3, standoff -1.88, extent 0.107,154.857 2.393,157.143
3D body "keystone-PN1380-1.STEP": height 3, standoff -1.88, extent -2.393,154.857 -0.107,157.143
3D body "keystone-PN1626-2.STEP": height 0.72, standoff -1.95, extent 0.264,154.937 2.219,156.893
3D body "keystone-PN1626-2.STEP": height 0.72, standoff -1.95, extent -2.237,154.937 -0.281,156.893
3D body "keystone-PN1380-1.STEP": height 3, standoff -1.88, extent 0.107,102.857 2.393,105.143
3D body "keystone-PN1380-1.STEP": height 3, standoff -1.88, extent -2.393,102.857 -0.107,105.143
3D body "keystone-PN1626-2.STEP": height 0.72, standoff -1.95, extent 0.264,102.937 2.219,104.893
3D body "keystone-PN1626-2.STEP": height 0.72, standoff -1.95, extent -2.237,102.937 -0.281,104.893
3D body "keystone-PN1380-1.STEP": height 3, standoff -1.88, extent 0.107,50.857 2.393,53.143
3D body "keystone-PN1380-1.STEP": height 3, standoff -1.88, extent -2.393,50.857 -0.107,53.143
3D body "keystone-PN1626-2.STEP": height 0.72, standoff -1.95, extent 0.264,50.937 2.219,52.893
3D body "keystone-PN1626-2.STEP": height 0.72, standoff -1.95, extent -2.237,50.937 -0.281,52.893
3D body "keystone-PN1380-1.STEP": height 3, standoff -1.88, extent 0.107,-1.143 2.393,1.143
3D body "keystone-PN1380-1.STEP": height 3, standoff -1.88, extent -2.393,-1.143 -0.107,1.143
3D body "keystone-PN1626-2.STEP": height 0.72, standoff -1.95, extent 0.264,-1.063 2.219,0.893
3D body "keystone-PN1626-2.STEP": height 0.72, standoff -1.95, extent -2.237,-1.063 -0.281,0.893